# EAGLE library part 662010236022 (library Wuerth_Elektronik_eiCan_08_Micro_Power_Connectors)
WR-MPC3 3.00mm Male Dual Row SMT Angled Header with Plastic Pegs, 10 Pins
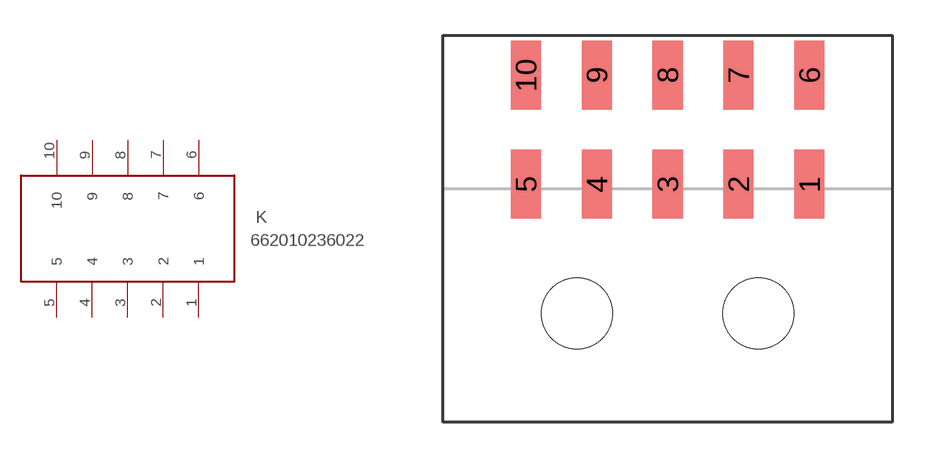
[diagram p42: symbol with the pads of 662010236022; footprint 662010236022]

Designator prefix K

## 662010236022  [662010236022]
1  1
2  2
3  3
4  4
5  5
6  6
7  7
8  8
9  9
10  10

## Footprint 662010236022 (pad centres in mm)
WR-MPC3 3.00mm Male Dual Row SMT Angled Header with Plastic Pegs, 10 Pins
smd 1.27 x 2.92: 1 0,-2.31; 2 -3,-2.31; 3 -6,-2.31; 4 -9,-2.31; 5 -12,-2.31; 6 0,2.31; 7 -3,2.31; 8 -6,2.31; 9 -9,2.31; 10 -12,2.31
hole 3 at -2.16,-7.79
hole 3 at -9.84,-7.79